# EAGLE library part T511 (library LOCDTK35)
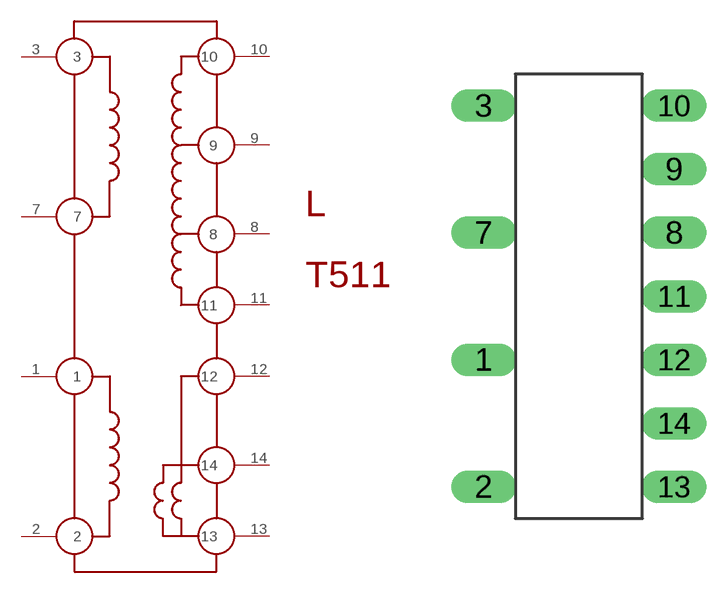
[diagram p0: symbol with the pads of E; footprint E]

Designator prefix L

## T511  [E]
1  1
2  2
3  3
7  7
8  8
9  9
10  10
11  11
12  12
13  13
14  14

## Footprint E (pad centres in mm)
drill 0.8 long: 1 -11.43,-3.81; 2 -11.43,-8.89; 3 -11.43,6.35; 7 -11.43,1.27; 8 -3.81,1.27; 9 -3.81,3.81; 10 -3.81,6.35; 11 -3.81,-1.27; 12 -3.81,-3.81; 13 -3.81,-8.89; 14 -3.81,-6.35